# Altium schematic symbol library Schlib.SchLib: 31 symbols
Pins are listed as number, name and electrical type; pins without a type are passive.

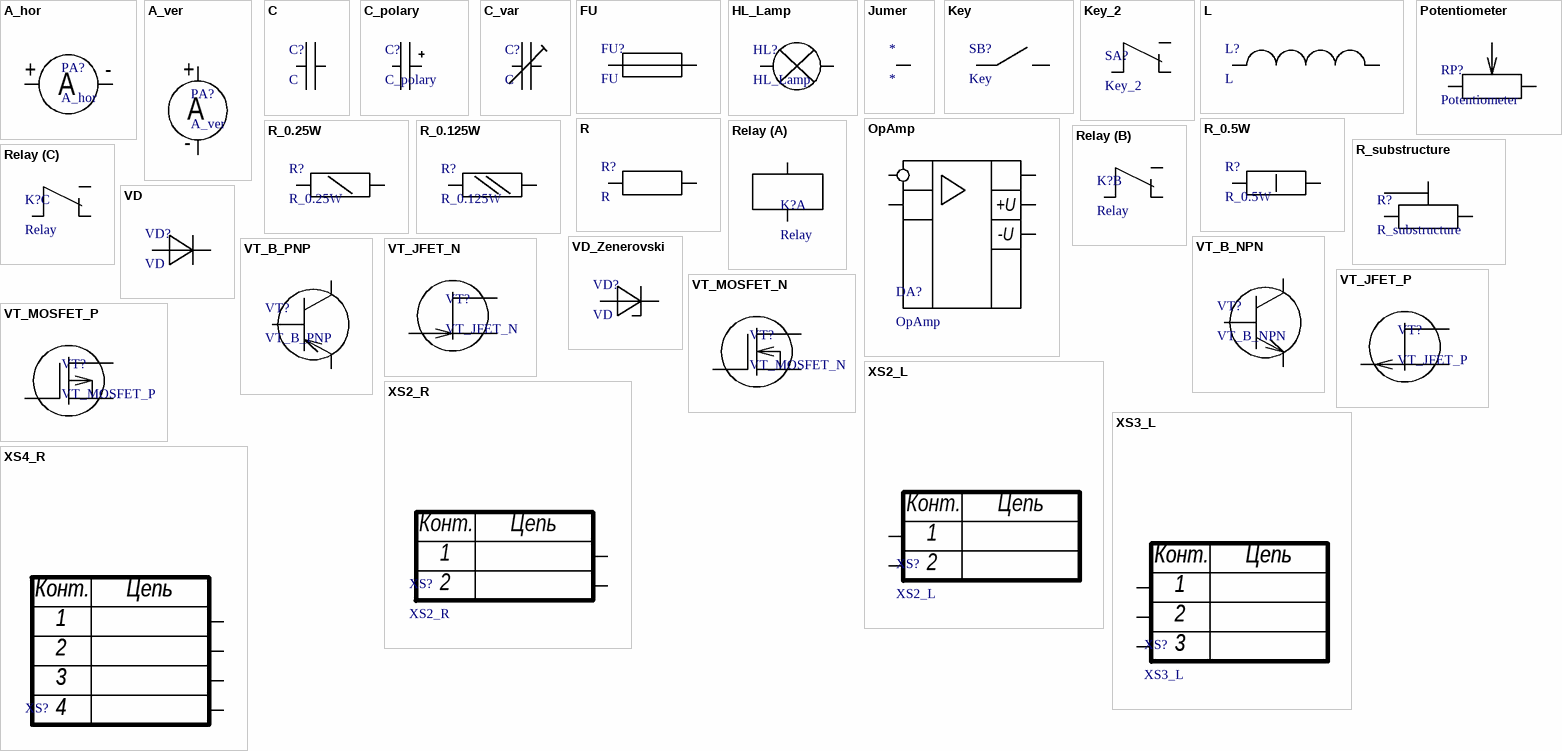
[diagram p0: symbols A_hor to XS4_R]

## A_hor
designator PA?
footprint Connecter PLS2-1
pins: 1, 2
text: +; -; A

## A_ver
designator PA?
footprint Connecter PLS2-1
pins: 1, 2
text: +; A; -

## C
designator C?
footprint C_SMD_1206 (Chip Resistor, 2-Leads, Body 3,10x1,60mm, IPC Medium Density)
footprint C_THT_5mm
pins: 1, 2

## C_polary
designator C?
pins: 1, 2

## C_var
designator C?, comment C
footprint C_var_THT
pins: 1, 2

## FU
designator FU?
footprint Fuse_THT
pins: 1, 2

## HL_Lamp
designator HL?
footprint Lamp
pins: 1, 2

## Jumer
designator *
footprint JUMPER_THT
pins: 1, 2

## Key
designator SB?
footprint Push_Button_SMD
pins: 1, 2

## Key_2
designator SA?
pins: 1, 2, 3

## L
designator L?
footprint L_THT
pins: 1, 2

## OpAmp
designator DA?
footprint OpAmp
pins: 1, 2, 3, 4, 5
text: +U; -U

## Potentiometer
designator RP?
footprint Potentiometer
pins: 1, 2, 3

## R
designator R?
footprint R_SMD_1206 (Chip Capacitor, 2-Leads, Body 3,10x1,60mm, IPC Medium Density)
footprint R_THT_6mm
footprint R_THT_10.8mm
pins: 1, 2

## R_0.5W
designator R?
pins: 1, 2

## R_0.25W
designator R?
pins: 1, 2

## R_0.125W
designator R?
pins: 1, 2

## R_substructure
designator R?
footprint R_substructure_THT
pins: 1, 2, 3

## Relay
designator K?
footprint Relay
part A pins: 1, 2
part B pins: 3, 4, 5
part C pins: 6, 7, 8

## VD
designator VD?
footprint Diode_THT
pins: 1, 2

## VD_Zenerovski
designator VD?, comment VD
footprint Zener_Diode_7.5mm
pins: 1, 2

## VT_B_NPN
designator VT?
footprint KP315B
footprint TO-92_CBE
footprint TO-92_EBC
pins: 1, 2, 3

## VT_B_PNP
designator VT?
footprint KP313A
footprint TO-92_CBE
footprint TO-92_EBC
pins: 1, 2, 3

## VT_JFET_N
designator VT?
footprint KP103K
pins: 1, 2, 3

## VT_JFET_P
designator VT?
pins: 1, 2, 3

## VT_MOSFET_N
designator VT?
pins: 1, 2, 3

## VT_MOSFET_P
designator VT?
footprint KP103K
pins: 1, 2, 3

## XS2_L
designator XS?
footprint XS2
footprint XS2_Power
pins: 1, 2
text: Конт.; Цепь

## XS2_R
designator XS?
footprint XS2
footprint XS2_Power
pins: 1, 2
text: Конт.; Цепь

## XS3_L
designator XS?
footprint XS3
pins: 1, 2, 3
text: Конт.; Цепь

## XS4_R
designator XS?  (value not drawn)
footprint XS4
pins: 1, 2, 3, 4
text: Конт.; Цепь